# Altium schematic symbol library Common.SchLib: 4 symbols
Pins are listed as number, name and electrical type; pins without a type are passive.

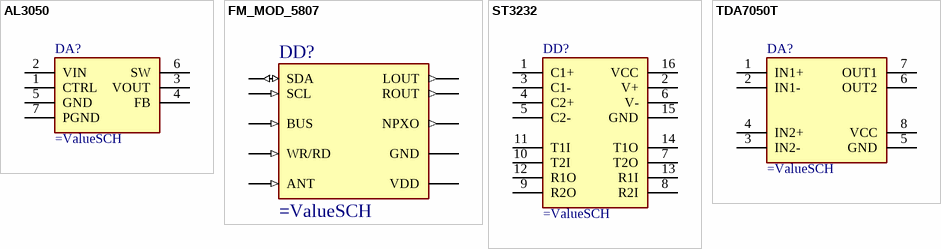
[diagram p0: symbols AL3050 to TDA7050T]

## AL3050
designator DA?
pins: 1 CTRL, 2 VIN, 3 VOUT, 4 FB, 5 GND, 6 SW, 7 PGND

## FM_MOD_5807
designator DD?
FM-reciever module for Arduino
pins: ANT (in), BUS (in), GND (power), LOUT (out), NPXO (out), ROUT (out), SCL (in), SDA (io), VDD (power), WR/RD (in)

## ST3232
designator DD?
pins: 1 C1+, 2 V+, 3 C1-, 4 C2+, 5 C2-, 6 V-, 7 T2O, 8 R2I, 9 R2O, 10 T2I, 11 T1I, 12 R1O, 13 R1I, 14 T1O, 15 GND, 16 VCC

## TDA7050T
designator DA?
pins: 1 IN1+, 2 IN1-, 3 IN2-, 4 IN2+, 5 GND, 6 OUT2, 7 OUT1, 8 VCC